# Altium footprint library CAP_100V_1500uF.PcbLib: 1 footprints
Each footprint in its own frame and in the unit in brackets; x right, y up, seen from the top. Pads: shape width x height; smd on the part's side, far side on the other; paste and mask are expansions set on the pad; w line width, h text height; cw(c..) or ccw(c..) is an arc to the next point about the centre after c.
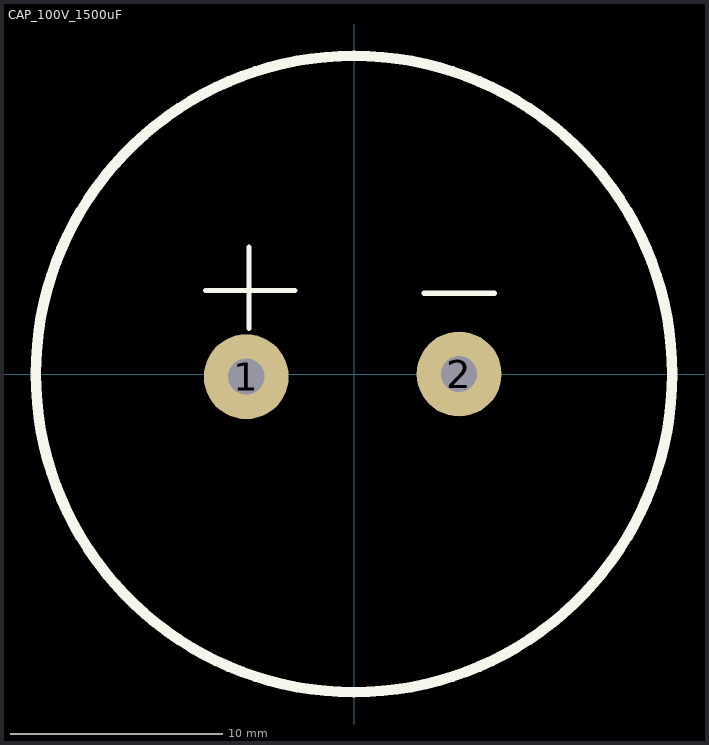
[diagram p0: the footprint, top view; thin cyan lines are the x and y axes]

## CAP_100V_1500uF [mm]
pads (2):
  round 4 hole 1.7: 1(-5.08,-0.127) 2(4.953,0)
Top Overlay:
  circle w0.5: c0,0 r15.002
  lines w0.254: -6.985,3.937 -2.794,3.937 -4.889,3.937 -4.953,4 ; -4.953,2.159 -4.953,4 ; -4.953,5.969 -4.953,4 ; 3.302,3.81 6.604,3.81
3D body "HITANO 1500uF 100V EHU 105C (N).STEP": height 32.53, standoff -5.67, extent -15,-15 15.1,15.1